# Altium schematic symbol library Schlib2.SchLib: 2 symbols
Pins are listed as number, name and electrical type; pins without a type are passive.

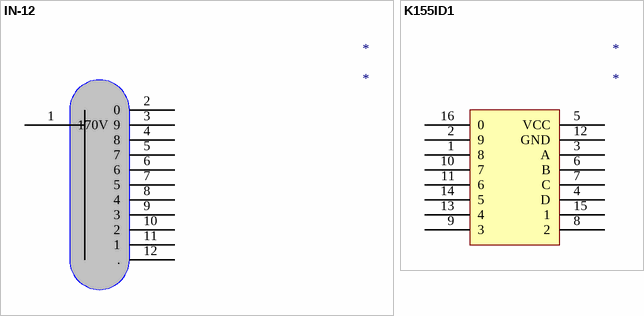
[diagram p0: symbols IN-12 to K155ID1]

## IN-12
designator *
footprint IN-12 (IN-12 Nixie)
pins: 1 170V, 2 0, 3 9, 4 8, 5 7, 6, 7 5, 8 4, 9 3, 10 2, 11 1, 12 .

## K155ID1
designator *
footprint DIP16
pins: 1 8, 2 9, 3 A, 4 D, 5 VCC, 6 B, 7 C, 8 2, 9 3, 10 7, 11 6, 12 GND, 13 4, 14 5, 15 1, 16 0